# Altium footprint library P3_MP3_Player.PcbLib: 9 footprints
Each footprint in its own frame and in the unit in brackets; x right, y up, seen from the top. Pads: shape width x height; smd on the part's side, far side on the other; paste and mask are expansions set on the pad; w line width, h text height; cw(c..) or ccw(c..) is an arc to the next point about the centre after c.
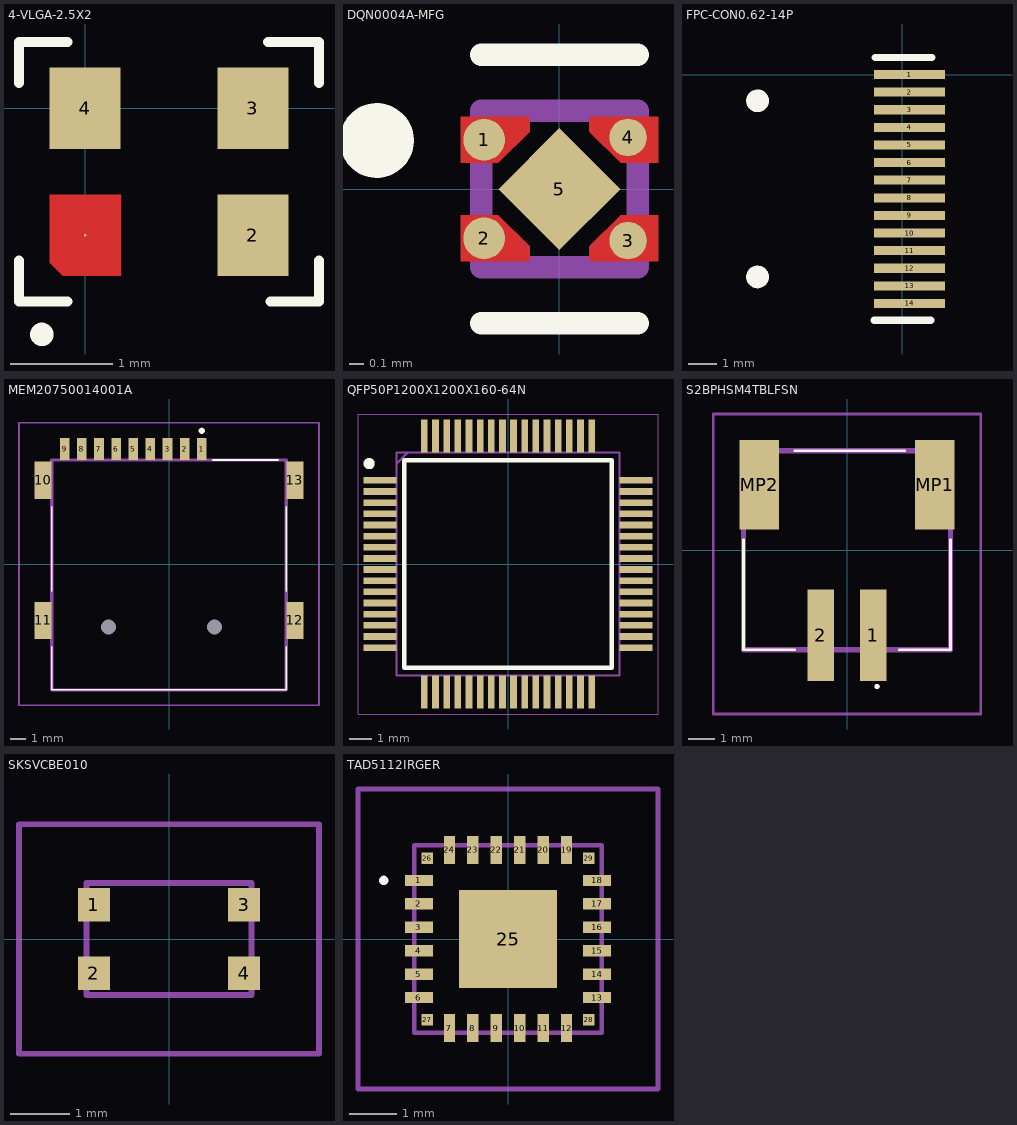
[diagram p0: the footprints below, top view; thin cyan lines are the x and y axes]

## 4-VLGA-2.5X2 [mm]
pads (4):
  round 0.025 smd: 1(0,-1.25)
  rect 0.7x0.8 smd: 2(1.65,-1.25) 3(1.65,0) 4(0,0)
Top Layer:
  region: -0.35,-0.85 -0.35,-1.52 -0.22,-1.65 0.35,-1.65 0.35,-0.85
Top Overlay:
  circle w0.2: c-0.425,-2.225 r0.015
  lines w0.1: -0.65,-1.5 -0.65,-1.9 -0.175,-1.9 ; -0.65,0.25 -0.65,0.65 -0.175,0.65 ; 1.8,0.65 2.3,0.65 2.3,0.25 ; 1.825,-1.9 2.3,-1.9 2.3,-1.5

## DQN0004A-MFG [mm]
pads (5):
  round 0.279 smd paste-0.127 mask-0.127: 1(-0.505,0.33) 2(-0.505,-0.33)
  round 0.251 smd paste-0.113 mask-0.114: 3(0.459,-0.346) 4(0.459,0.346)
  rect 0.58x0.58 smd rot 135 paste-0.277 mask-0.279: 5(0,0)
Top Layer:
  region: -0.66,-0.175 -0.66,-0.485 -0.2,-0.485 -0.2,-0.385 -0.41,-0.175
  region: 0.66,0.175 0.66,0.485 0.2,0.485 0.2,0.385 0.41,0.175
  region: 0.66,-0.175 0.66,-0.485 0.2,-0.485 0.2,-0.385 0.41,-0.175
  region: -0.66,0.175 -0.66,0.485 -0.2,0.485 -0.2,0.385 -0.41,0.175
Top Overlay:
  circle w0.25: c-1.225,0.325 r0.125
  lines w0.15: -0.525,-0.9 0.525,-0.9 ; -0.525,0.9 0.525,0.9
Top Paste:
  region: 0.65,-0.225 0.65,-0.435 0.25,-0.435 0.25,-0.405 0.43,-0.225
  region: -0.65,-0.225 -0.65,-0.435 -0.25,-0.435 -0.25,-0.405 -0.43,-0.225
  region: 0.65,0.225 0.65,0.435 0.25,0.435 0.25,0.405 0.43,0.225
  region: -0.65,0.225 -0.65,0.435 -0.25,0.435 -0.25,0.405 -0.43,0.225
  region: 0.283,0.035 0.283,-0.035 0.035,-0.283 -0.035,-0.283 -0.283,-0.035 -0.283,0.035 -0.035,0.283 0.035,0.283
Top Solder:
  region: -0.61,-0.225 -0.61,-0.435 -0.25,-0.435 -0.25,-0.405 -0.43,-0.225
  region: 0.61,-0.225 0.61,-0.435 0.25,-0.435 0.25,-0.405 0.43,-0.225
  region: 0.61,0.225 0.61,0.435 0.25,0.435 0.25,0.405 0.43,0.225
  region: -0.61,0.225 -0.61,0.435 -0.25,0.435 -0.25,0.405 -0.43,0.225
  region: -0.304,-0.035 -0.304,0.035 -0.035,0.304 0.035,0.304 0.304,0.035 0.304,-0.035 0.035,-0.304 -0.035,-0.304
Mechanical 13:
  lines w0.15: -0.525,-0.525 -0.525,0.525 0.525,0.525 0.525,-0.525 -0.525,-0.525

## FPC-CON0.62-14P [mm] "FPC Connector 14 Pin 0.62mm Pitch"
pads (14):
  rect 2.5x0.32 smd: 1(0.25,0) 2(0.25,-0.62) 3(0.25,-1.24) 4(0.25,-1.86) 5(0.25,-2.48) 6(0.25,-3.1) 7(0.25,-3.72) 8(0.25,-4.34) 9(0.25,-4.96) 10(0.25,-5.58) 11(0.25,-6.2) 12(0.25,-6.82) 13(0.25,-7.44) 14(0.25,-8.06)
Top Overlay:
  circle w0.2: c-5.1,-0.925 r0.3
  circle w0.2: c-5.1,-7.125 r0.3
  region: -5.1,-0.625 -5.4,-0.925 -5.1,-1.225 -4.8,-0.925
  region: -5.1,-6.825 -5.4,-7.125 -5.1,-7.425 -4.8,-7.125
  lines w0.254: -1.004,-8.652 0.996,-8.652 ; -0.961,0.602 1.039,0.602

## MEM20750014001A [mm]
pads (15):
  rect 0.62x1.4 smd: 1(2.105,7.375) 2(1.005,7.375) 3(-0.095,7.375) 4(-1.195,7.375) 5(-2.295,7.375) 6(-3.395,7.375) 7(-4.495,7.375) 8(-5.595,7.375) 9(-6.695,7.375)
  rect 1.1x2.4 smd: 10(-8.075,5.375) 11(-8.075,-3.625) 12(8.075,-3.625) 13(8.075,5.375)
  round 0.475 hole 0.95 unplated: 14(-3.875,-4.045) 15(2.925,-4.045)
Top Overlay:
  lines w0.1: -7.525,-5.325 -7.525,-8.075 7.525,-8.075 7.525,-5.325 ; -7.525,-1.75 -7.525,3.675 ; 2.8,6.675 7,6.675 ; 7.525,-1.75 7.525,3.675
  lines w0.2: 2,8.55 cw(c2.1,8.55) 2.2,8.55 cw(c2.1,8.55) 2,8.55
Mechanical 13:
  lines w0.2: -7.525,-8.075 -7.525,6.675 7.525,6.675 7.525,-8.075 -7.525,-8.075
Mechanical 15:
  lines w0.1: -9.625,-9.075 -9.625,9.075 9.625,9.075 9.625,-9.075 -9.625,-9.075
3D body "MEM2075-00-140-01-A.stp": height 1.39, standoff -0.6, extent -8.225,-8.24 8.215,7.61

## NET_TIE [mm] "Net Tie"

## QFP50P1200X1200X160-64N [mm]
pads (64):
  rect 1.475x0.3 smd: 1(-5.738,3.75) 2(-5.738,3.25) 3(-5.738,2.75) 4(-5.738,2.25) 5(-5.738,1.75) 6(-5.738,1.25) 7(-5.738,0.75) 8(-5.738,0.25) 9(-5.738,-0.25) 10(-5.738,-0.75) 11(-5.738,-1.25) 12(-5.738,-1.75) 13(-5.738,-2.25) 14(-5.738,-2.75) 15(-5.738,-3.25) 16(-5.738,-3.75) 33(5.738,-3.75) 34(5.738,-3.25) 35(5.738,-2.75) 36(5.738,-2.25) 37(5.738,-1.75) 38(5.738,-1.25) 39(5.738,-0.75) 40(5.738,-0.25) 41(5.738,0.25) 42(5.738,0.75) 43(5.738,1.25) 44(5.738,1.75) 45(5.738,2.25) 46(5.738,2.75) 47(5.738,3.25) 48(5.738,3.75)
  rect 0.3x1.475 smd: 17(-3.75,-5.738) 18(-3.25,-5.738) 19(-2.75,-5.738) 20(-2.25,-5.738) 21(-1.75,-5.738) 22(-1.25,-5.738) 23(-0.75,-5.738) 24(-0.25,-5.738) 25(0.25,-5.738) 26(0.75,-5.738) 27(1.25,-5.738) 28(1.75,-5.738) 29(2.25,-5.738) 30(2.75,-5.738) 31(3.25,-5.738) 32(3.75,-5.738) 49(3.75,5.738) 50(3.25,5.738) 51(2.75,5.738) 52(2.25,5.738) 53(1.75,5.738) 54(1.25,5.738) 55(0.75,5.738) 56(0.25,5.738) 57(-0.25,5.738) 58(-0.75,5.738) 59(-1.25,5.738) 60(-1.75,5.738) 61(-2.25,5.738) 62(-2.75,5.738) 63(-3.25,5.738) 64(-3.75,5.738)
Top Overlay:
  circle w0.25: c-6.225,4.5 r0.125
  lines w0.2: -4.65,-4.65 4.65,-4.65 4.65,4.65 -4.65,4.65 -4.65,-4.65
Mechanical 13:
  lines w0.1: -5,4.5 -4.5,5 ; -5,-5 5,-5 5,5 -5,5 -5,-5
Mechanical 15:
  lines w0.05: -6.725,-6.725 6.725,-6.725 6.725,6.725 -6.725,6.725 -6.725,-6.725
3D body "STM32C552RET6.stp": height 1.61, standoff 0.01, extent -6.009,-6.009 6.009,6.009

## S2BPHSM4TBLFSN [mm]
pads (4):
  rect 1x3.5 smd: 1(1,-3.25) 2(-1,-3.25)
  rect 1.5x3.4 smd: MP1(3.35,2.5) MP2(-3.35,2.5)
Top Overlay:
  lines w0.1: -3.95,0.4 -3.95,-3.8 -2,-3.8 ; -2,3.8 2.2,3.8 ; 2,-3.8 3.95,-3.8 3.95,0.4 ; 1.1,-5.2 ccw(c1.15,-5.2) 1.2,-5.2 ccw(c1.15,-5.2) 1.1,-5.2
Mechanical 13:
  lines w0.2: -3.95,-3.8 -3.95,3.8 3.95,3.8 3.95,-3.8 -3.95,-3.8
Mechanical 15:
  lines w0.1: -5.1,-6.25 -5.1,5.2 5.1,5.2 5.1,-6.25 -5.1,-6.25
3D body "S2B-PH-SM4-TB_LF__SN_.stp": height 5.6, standoff 0, extent -3.95,-4.83 3.95,3.77

## SKSVCBE010 [mm]
pads (4):
  rect 0.55x0.57 smd: 1(-1.275,0.58) 2(-1.275,-0.58) 3(1.275,0.58) 4(1.275,-0.58)
Mechanical 13:
  lines w0.1: -1.4,-0.95 1.4,-0.95 1.4,0.95 -1.4,0.95 -1.4,-0.95
Mechanical 15:
  lines w0.1: -2.55,-1.95 2.55,-1.95 2.55,1.95 -2.55,1.95 -2.55,-1.95
3D body "SKSVCBE010.stp": height 0.51, standoff -0.04, extent -1.5,-0.95 1.5,0.95

## TAD5112IRGER [mm]
pads (29):
  rect 0.6x0.24 smd: 1(-1.9,1.25) 2(-1.9,0.75) 3(-1.9,0.25) 4(-1.9,-0.25) 5(-1.9,-0.75) 6(-1.9,-1.25) 13(1.9,-1.25) 14(1.9,-0.75) 15(1.9,-0.25) 16(1.9,0.25) 17(1.9,0.75) 18(1.9,1.25)
  rect 0.24x0.6 smd: 7(-1.25,-1.9) 8(-0.75,-1.9) 9(-0.25,-1.9) 10(0.25,-1.9) 11(0.75,-1.9) 12(1.25,-1.9) 19(1.25,1.9) 20(0.75,1.9) 21(0.25,1.9) 22(-0.25,1.9) 23(-0.75,1.9) 24(-1.25,1.9)
  rect 2.1x2.1 smd: 25(0,0)
  rect 0.25x0.25 smd: 26(-1.725,1.725) 27(-1.725,-1.725) 28(1.725,-1.725) 29(1.725,1.725)
Top Overlay:
  lines w0.1: -2.7,1.25 ccw(c-2.65,1.25) -2.6,1.25 ccw(c-2.65,1.25) -2.7,1.25
Mechanical 13:
  lines w0.1: -2,-2 2,-2 2,2 -2,2 -2,-2
Mechanical 15:
  lines w0.1: -3.2,-3.2 3.2,-3.2 3.2,3.2 -3.2,3.2 -3.2,-3.2
3D body "TAD5112IRGER.stp": height 0.6, standoff 0, extent -2,-2 2,2